# EAGLE library part 10118192-MICROUSB (library FCI-10118192-microusb)
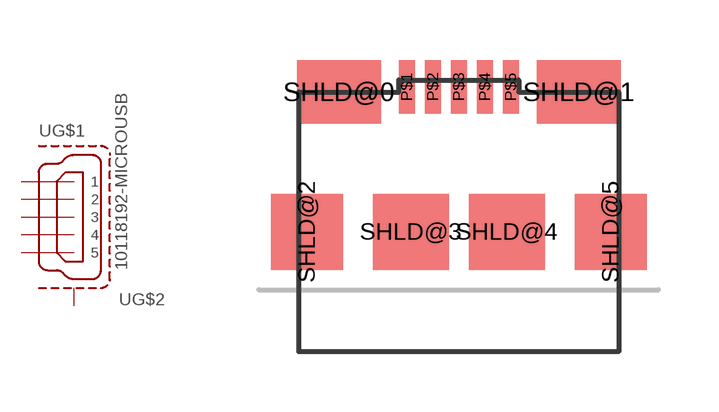
[diagram p0: symbol with the pads of MICROUSB-SMT; footprint MICROUSB-SMT]

Designator prefix -; gates G$1=MINI-USB G$2=USB-SHIELD

## 10118192-MICROUSB  [MICROUSB-SMT]
P$1  G$1:1  in
P$2  G$1:2  in
P$3  G$1:3  in
P$4  G$1:4  in
P$5  G$1:5  in
SHLD@0  G$2:S4  pas
SHLD@1  G$2:S4  pas
SHLD@2  G$2:S4  pas
SHLD@3  G$2:S4  pas
SHLD@4  G$2:S4  pas
SHLD@5  G$2:S4  pas

## Footprint MICROUSB-SMT (pad centres in mm)
smd 0.4 x 1.35: P$1 -1.3,3.625; P$2 -0.65,3.625; P$3 0,3.625; P$4 0.65,3.625; P$5 1.3,3.625
smd 2.1 x 1.6: SHLD@0 -3,3.5; SHLD@1 3,3.5
smd 1.8 x 1.9: SHLD@2 -3.8,0; SHLD@5 3.8,0
smd 1.9 x 1.9: SHLD@3 -1.2,0; SHLD@4 1.2,0